# EAGLE library part PIC16C65*?-40 (library microchip)
MICROCONTROLLER
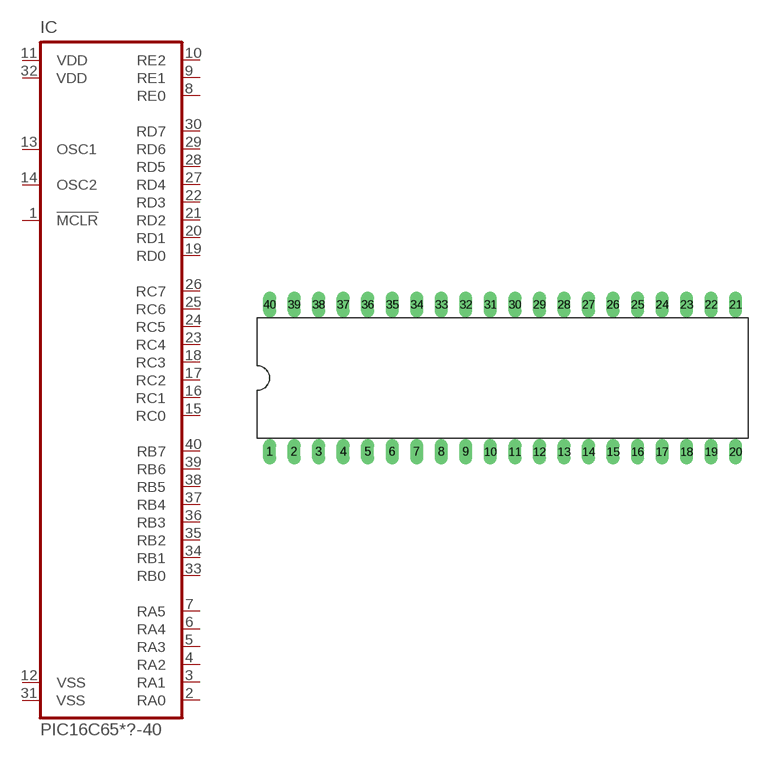
[diagram p126: symbol with the pads of DIL40; footprint DIL40]

Designator prefix IC

## PIC16C65P-40 (MF: MICROCHIP; MPN: PIC16C65B-20/P; OC_FARNELL: 9759670; OC_NEWARK: 12C1910), PIC16C65AP-40 (MPN: PIC16C65A-04/P; OC_FARNELL: 9759670; OC_NEWARK: 97K7249), PIC16C65BP-40 (MF: MICROCHIP; MPN: PIC16C65B-04/P; OC_FARNELL: 9759719; OC_NEWARK: 23C4232)  [DIL40]
1  !MCLR  in
2  RA0
3  RA1
4  RA2
5  RA3
6  RA4
7  RA5
8  RE0
9  RE1
10  RE2
11  VDD  pwr
12  VSS  pwr
13  OSC1  in
14  OSC2  out
15  RC0  out
16  RC1  out
17  RC2  out
18  RC3  out
19  RD0
20  RD1
21  RD2
22  RD3
23  RC4  out
24  RC5  out
25  RC6  out
26  RC7  out
27  RD4
28  RD5
29  RD6
30  RD7
31  VSS  pwr
32  VDD  pwr
33  RB0
34  RB1
35  RB2
36  RB3
37  RB4
38  RB5
39  RB6
40  RB7

## PIC16C65JW-40 (MPN: PIC16C65A-04/P; OC_FARNELL: unknown; OC_NEWARK: 97K7249), PIC16C65AJW-40 (MPN: PIC16C65A-04/P; OC_FARNELL: 9759670; OC_NEWARK: 97K7249), PIC16C65BJW-40 (MF: MICROCHIP; MPN: PIC16C65B/JW; OC_FARNELL: 9759719; OC_NEWARK: 96K3817)  [DIL40]
Pads as for DIL40

## Footprint DIL40 (pad centres in mm)
Dual In Line package type P
drill 0.813 long: 1 -24.13,-7.62; 2 -21.59,-7.62; 3 -19.05,-7.62; 4 -16.51,-7.62; 5 -13.97,-7.62; 6 -11.43,-7.62; 7 -8.89,-7.62; 8 -6.35,-7.62; 9 -3.81,-7.62; 10 -1.27,-7.62; 11 1.27,-7.62; 12 3.81,-7.62; 13 6.35,-7.62; 14 8.89,-7.62; 15 11.43,-7.62; 16 13.97,-7.62; 17 16.51,-7.62; 18 19.05,-7.62; 19 21.59,-7.62; 20 24.13,-7.62; 21 24.13,7.62; 22 21.59,7.62; 23 19.05,7.62; 24 16.51,7.62; 25 13.97,7.62; 26 11.43,7.62; 27 8.89,7.62; 28 6.35,7.62; 29 3.81,7.62; 30 1.27,7.62; 31 -1.27,7.62; 32 -3.81,7.62; 33 -6.35,7.62; 34 -8.89,7.62; 35 -11.43,7.62; 36 -13.97,7.62; 37 -16.51,7.62; 38 -19.05,7.62; 39 -21.59,7.62; 40 -24.13,7.62